# EAGLE library part USERPORT (library 326298_rev_a)
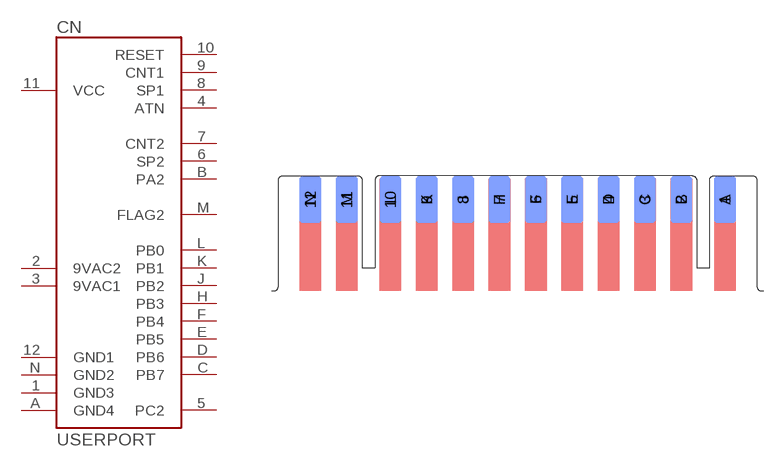
[diagram p1: symbol with the pads of USERPORT; footprint USERPORT]

Designator prefix CN

## USERPORT  [USERPORT]
1  GND3  pas
2  9VAC2  in
3  9VAC1  in
4  ATN
5  PC2
6  SP2
7  CNT2
8  SP1
9  CNT1
10  RESET
11  VCC  pas
12  GND1  pas
A  GND4  pas
B  PA2
C  PB7
D  PB6
E  PB5
F  PB4
H  PB3
J  PB2
K  PB1
L  PB0
M  FLAG2  in
N  GND2  pas

## Footprint USERPORT (pad centres in mm)
smd 2.35 x 5.08: 1 22.525,3.68; 2 17.775,3.68; 3 13.825,3.68; 4 9.875,3.68; 5 5.925,3.68; 6 1.975,3.68; 7 -1.975,3.68; 8 -5.925,3.68; 9 -9.875,3.68; 10 -13.825,3.68; 11 -18.575,3.68; 12 -22.525,3.68
smd 2.35 x 5.08 bottom: A 22.525,3.68; B 17.775,3.68; C 13.825,3.68; D 9.875,3.68; E 5.925,3.68; F 1.975,3.68; H -1.975,3.68; J -5.925,3.68; K -9.875,3.68; L -13.825,3.68; M -18.575,3.68; N -22.525,3.68